# Altium footprint library 8-PQFN(5x6).PcbLib: 1 footprints
Each footprint in its own frame and in the unit in brackets; x right, y up, seen from the top. Pads: shape width x height; smd on the part's side, far side on the other; paste and mask are expansions set on the pad; w line width, h text height; cw(c..) or ccw(c..) is an arc to the next point about the centre after c.
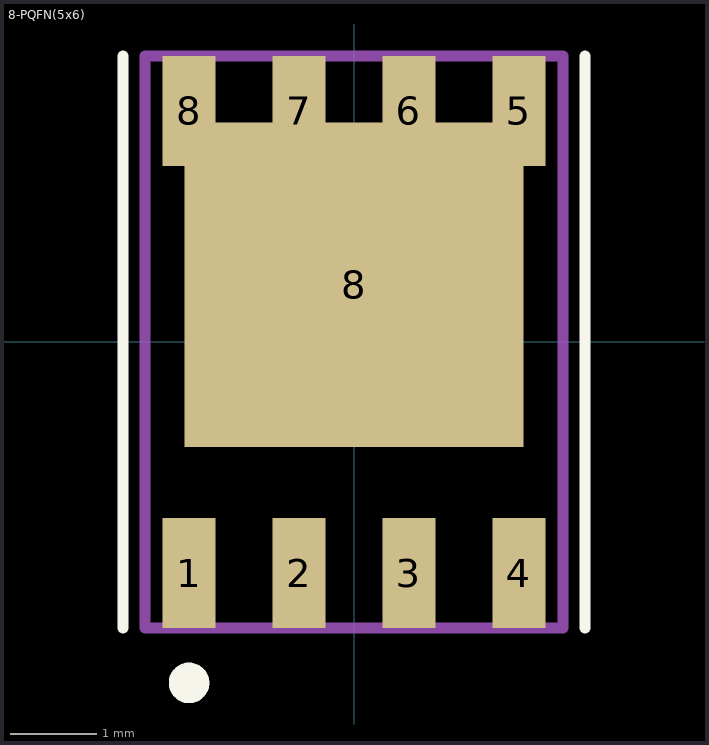
[diagram p0: the footprint, top view; thin cyan lines are the x and y axes]

## 8-PQFN(5x6) [mm]
pads (9):
  rect 0.61x1.27 smd mask+0.051: 1(-1.905,-2.67) 2(-0.635,-2.67) 3(0.635,-2.67) 4(1.905,-2.67) 5(1.905,2.67) 6(0.635,2.67) 7(-0.635,2.67) 8(-1.905,2.67)
  rect 3.91x3.75 smd mask+0.051: 8(0,0.66)
Top Overlay:
  circle w0.254: c-1.905,-3.937 r0.107
  lines w0.127: -2.667,-3.302 -2.667,3.302 ; 2.667,-3.302 2.667,3.302
Top Designator:
  text ".Designator" at -7.618,-0.911 h1.52
Mechanical 13:
  lines w0.127: -2.413,-3.302 2.413,-3.302 2.413,3.302 -2.413,3.302 -2.413,-3.302
Mechanical 15:
  lines w0.203: -0.381,0 0,0 ; 0,-0.381 0,0.381 0,0 ; 0,0 0.381,0 0,0
3D body "FDMS86183.stp": height 1.2, standoff 0, extent -2.45,-3.244 2.45,3.244